# Altium schematic symbol library LTC6820HMS_PBF.SchLib: 2 symbols
Pins are listed as number, name and electrical type; pins without a type are passive.

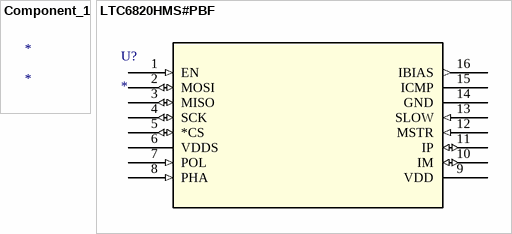
[diagram p0: symbols Component_1 to LTC6820HMS#PBF]

## Component_1
designator *

## LTC6820HMS#PBF
designator U?
Imported; Manufacturer_Part_Number: ltc6820hms#pbf; Vendor: Linear Technology; Value: Value; Type: Type; RefDes: RefDes
footprint MSOP-16_MS
pins: 1 EN (in), 2 MOSI (io), 3 MISO (io), 4 SCK (io), 5 *CS (io), 6 VDDS (power), 7 POL (in), 8 PHA (in), 9 VDD (power), 10 IM (io), 11 IP (io), 12 MSTR (in), 13 SLOW (in), 14 GND (power), 15 ICMP, 16 IBIAS (out)